# EAGLE library part ARDUIN_PRO_MINI_WITHOUT_A4-7 (library aobotelhoLibrary)
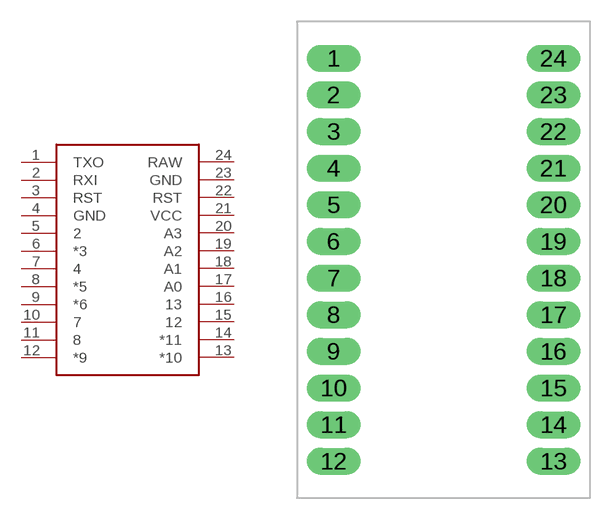
[diagram p5: symbol with the pads of ARDUINO_PRO_MINI_WITHOUT-A4-7; footprint ARDUINO_PRO_MINI_WITHOUT-A4-7]

Designator prefix -

## ARDUIN_PRO_MINI_WITHOUT_A4-7  [ARDUINO_PRO_MINI_WITHOUT-A4-7]
1  TXO
2  RXI
3  RST
4  GND
5  2
6  *3
7  4
8  *5
9  *6
10  7
11  8
12  *9
13  *10
14  *11
15  12
16  13
17  A0
18  A1
19  A2
20  A3
21  VCC
22  RST
23  GND
24  RAW

## Footprint ARDUINO_PRO_MINI_WITHOUT-A4-7 (pad centres in mm)
drill 1.016 pad 1.88 long: 1 -7.62,13.97; 2 -7.62,11.43; 3 -7.62,8.89; 4 -7.62,6.35; 5 -7.62,3.81; 6 -7.62,1.27; 7 -7.62,-1.27; 8 -7.62,-3.81; 9 -7.62,-6.35; 10 -7.62,-8.89; 11 -7.62,-11.43; 12 -7.62,-13.97; 13 7.62,-13.97; 14 7.62,-11.43; 15 7.62,-8.89; 16 7.62,-6.35; 17 7.62,-3.81; 18 7.62,-1.27; 19 7.62,1.27; 20 7.62,3.81; 21 7.62,6.35; 22 7.62,8.89; 23 7.62,11.43; 24 7.62,13.97